# Altium schematic symbol library Diodes.SchLib: 3 symbols
Pins are listed as number, name and electrical type; pins without a type are passive.

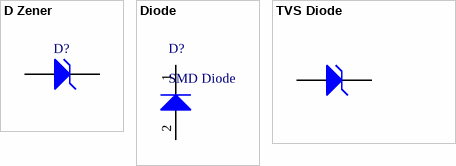
[diagram p0: symbols D Zener to TVS Diode]

## D Zener
designator D?
Zener Diode; Published: 8-Jun-2000; LatestRevisionDate: 17-Jul-2002; LatestRevisionNote: Re-released for DXP Platform.; PackageReference: DIODE-0.7; Publisher: Altium Limited; PackageDescription: Diode, Thru-Hole; 2 Leads; 0.7 in Pin Spacing
simulation model ZENER (Diode)
signal-integrity model D Zener
footprint DIODE Axial 400 mil (Diode, Thru-Hole; 2 Leads; 0.4 in Pin Spacing)
pins: 1 A, 2 K

## Diode
designator D?, comment SMD Diode
Diode, SMD, 0805
footprint Diode (3mm X 1mm X 4.65mm) SMD
pins: 1, 2

## TVS Diode
designator TVS?
Diode, TVS, Axial; Published: 17-Dec-2003; DatasheetDocument: 29-Apr-2002; ComponentLink1Description: Manufacturer Link; ComponentLink2Description: Datasheet
simulation model P6KE20A (Vishay TVS Diode)
footprint DIODE Axial 400 mil (Diode, Thru-Hole; 2 Leads; 0.4 in Pin Spacing)
pins: 1 A, 2 K